# Altium footprint library EASY-EAI-Nano-TB V1.01.PcbLib: 64 footprints (part 3 of 4)
Each footprint in its own frame and in the unit in brackets; x right, y up, seen from the top. Pads: shape width x height; smd on the part's side, far side on the other; paste and mask are expansions set on the pad; w line width, h text height; cw(c..) or ccw(c..) is an arc to the next point about the centre after c.
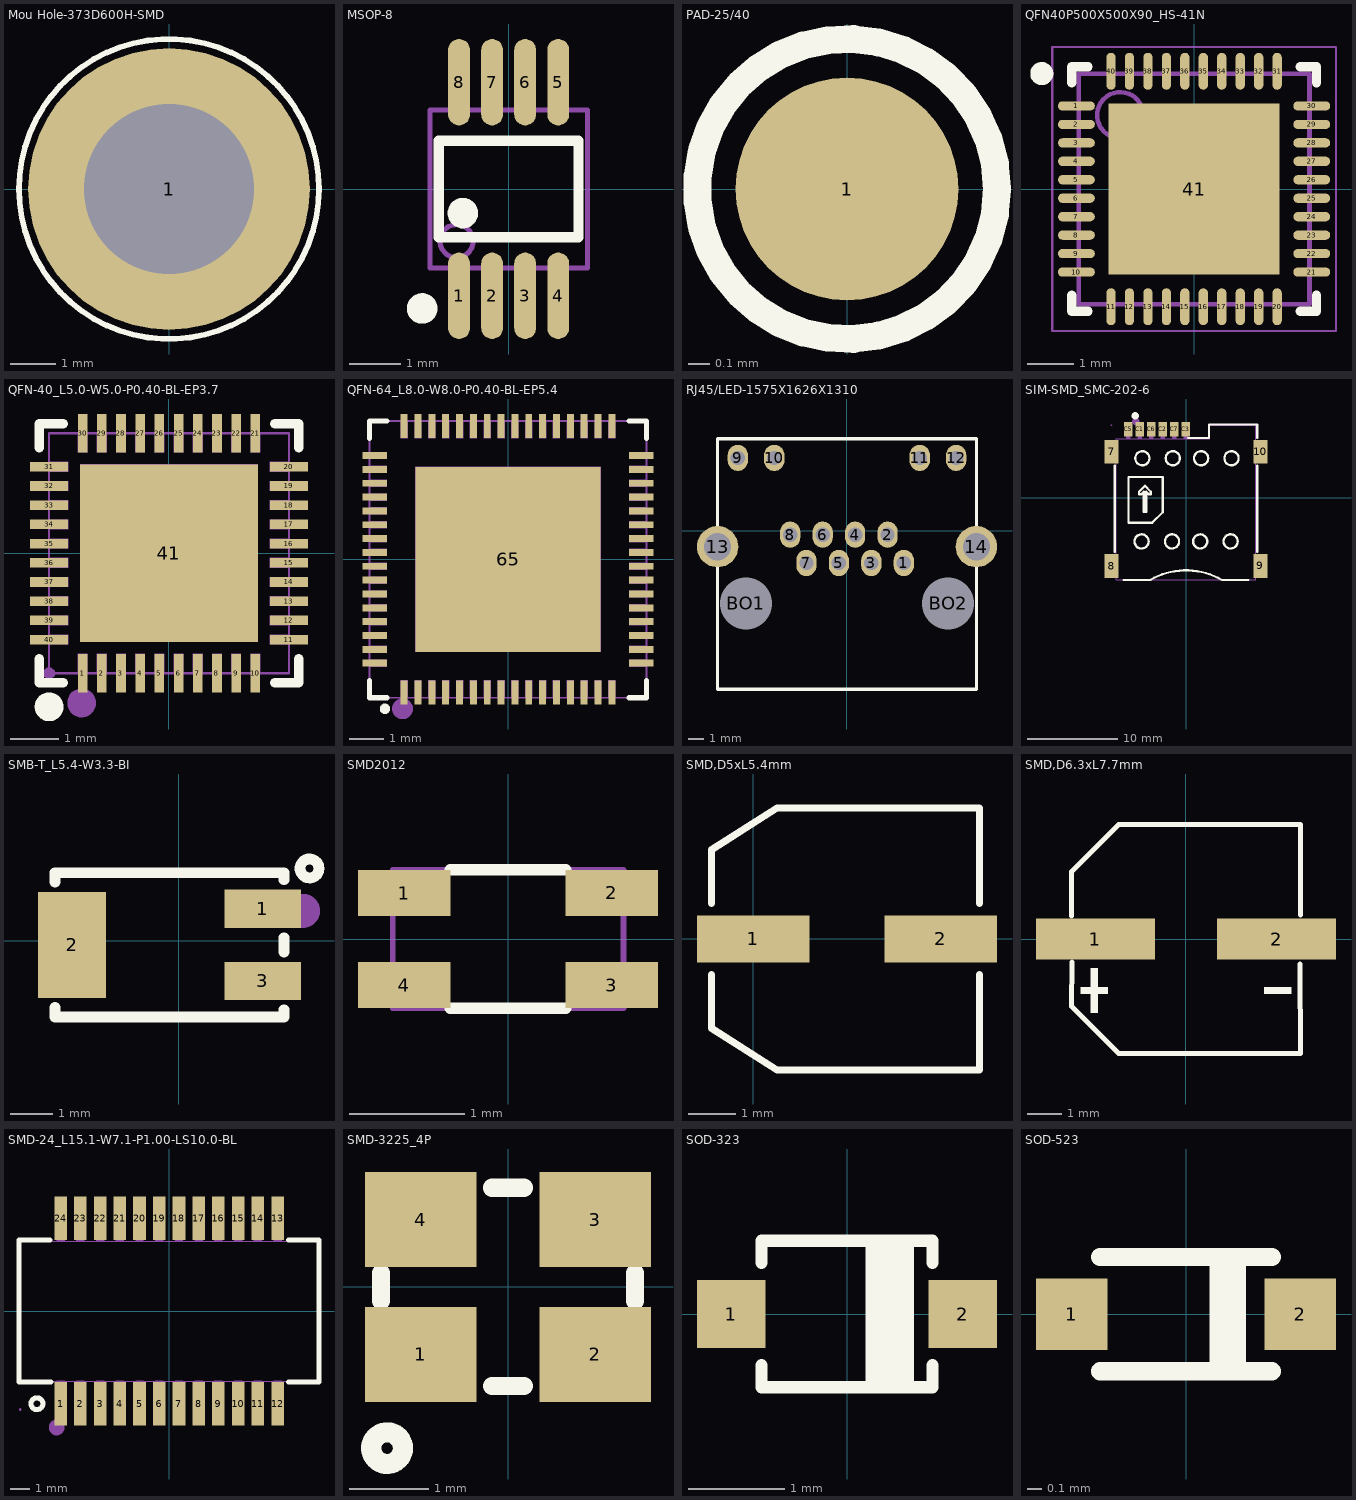
[diagram p2: the footprints below, top view; thin cyan lines are the x and y axes]

## Mou Hole-373D600H-SMD [mm] "Diameter 3.6mm SMD nut,height 6mm"
height 6
pads (1):
  round 6.2 hole 3.73: 1(0,0)
Top Overlay:
  circle w0.127: c0,0 r3.3
Top Paste:
  region: 0.4,1.828 0.717,1.731 1.041,1.558 1.325,1.325 1.558,1.041 1.731,0.717 1.828,0.4 1.822,0.398 1.822,0.4 3.073,0.4 3.078,0.401 3.071,0.486 2.957,0.961 2.771,1.412 2.516,1.828 2.199,2.199 1.828,2.516 1.412,2.771 0.961,2.957 0.486,3.071 0.401,3.078 0.4,3.074 0.4,3.073
  region: -1.828,0.4 -1.731,0.717 -1.558,1.041 -1.325,1.325 -1.041,1.558 -0.717,1.731 -0.4,1.828 -0.398,1.822 -0.4,1.822 -0.4,3.073 -0.401,3.078 -0.486,3.071 -0.961,2.957 -1.412,2.771 -1.828,2.516 -2.199,2.199 -2.516,1.828 -2.771,1.412 -2.957,0.961 -3.071,0.486 -3.078,0.401 -3.074,0.4 -3.073,0.4
  region: -0.4,-1.828 -0.717,-1.731 -1.041,-1.558 -1.325,-1.325 -1.558,-1.041 -1.731,-0.717 -1.828,-0.4 -1.822,-0.398 -1.822,-0.4 -3.073,-0.4 -3.078,-0.401 -3.071,-0.486 -2.957,-0.961 -2.771,-1.412 -2.516,-1.828 -2.199,-2.199 -1.828,-2.516 -1.412,-2.771 -0.961,-2.957 -0.486,-3.071 -0.401,-3.078 -0.4,-3.074 -0.4,-3.073
  region: 1.828,-0.4 1.731,-0.717 1.558,-1.041 1.325,-1.325 1.041,-1.558 0.717,-1.731 0.4,-1.828 0.398,-1.822 0.4,-1.822 0.4,-3.073 0.401,-3.078 0.486,-3.071 0.961,-2.957 1.412,-2.771 1.828,-2.516 2.199,-2.199 2.516,-1.828 2.771,-1.412 2.957,-0.961 3.071,-0.486 3.078,-0.401 3.074,-0.4 3.073,-0.4
3D body: height 6, standoff 0, extent -2.791,-2.669 2.769,2.884
3D body: height 0, standoff -1.53, extent -1.807,-1.819 1.793,1.782

## MSOP-8 [mm]
pads (8):
  oval 0.43x1.7 smd mask+0.051: 1(-0.975,-2.1) 2(-0.325,-2.1) 3(0.325,-2.1) 4(0.975,-2.1) 5(0.975,2.1) 6(0.325,2.1) 7(-0.325,2.1) 8(-0.975,2.1)
Top Overlay:
  circle w0.3: c-0.9,-0.475 r0.15
  circle w0.3: c-1.7,-2.35 r0.15
  lines w0.2: -1.375,-0.95 1.375,-0.95 1.375,0.95 -1.375,0.95 -1.375,-0.95
Mechanical 13:
  circle w0.1: c-1.025,-1.025 r0.325
  lines w0.1: -1.55,-1.55 1.55,-1.55 1.55,1.55 -1.55,1.55 -1.55,-1.55

## PAD-25/40 [mil]
height 106.3
pads (1):
  round 40 smd paste-43.31: 1(0,0)
Top Overlay:
  circle w5: c0,0 r26.93

## QFN40P500X500X90_HS-41N [mm] "QFN, 40-Leads, Body 5.00x5.00mm, Pitch 0.40mm, Thermal Pad 3.70x3.70mm, IPC Medium Density"
height 0.9
pads (41):
  oval 0.8x0.2 smd mask+0.051: 1(-2.55,1.8) 2(-2.55,1.4) 3(-2.55,1) 4(-2.55,0.6) 5(-2.55,0.2) 6(-2.55,-0.2) 7(-2.55,-0.6) 8(-2.55,-1) 9(-2.55,-1.4) 10(-2.55,-1.8) 21(2.55,-1.8) 22(2.55,-1.4) 23(2.55,-1) 24(2.55,-0.6) 25(2.55,-0.2) 26(2.55,0.2) 27(2.55,0.6) 28(2.55,1) 29(2.55,1.4) 30(2.55,1.8)
  oval 0.2x0.8 smd mask+0.051: 11(-1.8,-2.55) 12(-1.4,-2.55) 13(-1,-2.55) 14(-0.6,-2.55) 15(-0.2,-2.55) 16(0.2,-2.55) 17(0.6,-2.55) 18(1,-2.55) 19(1.4,-2.55) 20(1.8,-2.55) 31(1.8,2.55) 32(1.4,2.55) 33(1,2.55) 34(0.6,2.55) 35(0.2,2.55) 36(-0.2,2.55) 37(-0.6,2.55) 38(-1,2.55) 39(-1.4,2.55) 40(-1.8,2.55)
  rect 3.7x3.7 smd: 41(0,0)
Top Overlay:
  circle w0.25: c-3.3,2.5 r0.125
  lines w0.2: -2.65,-2.3 -2.65,-2.65 -2.3,-2.65 ; -2.65,2.3 -2.65,2.65 -2.3,2.65 ; 2.3,-2.65 2.65,-2.65 2.65,-2.3 ; 2.3,2.65 2.65,2.65 2.65,2.3
Mechanical 13:
  circle w0.1: c-1.6,1.6 r0.5
  lines w0.1: -2.5,-2.5 2.5,-2.5 2.5,2.5 -2.5,2.5 -2.5,-2.5
Mechanical 15:
  lines w0.05: -3.075,-3.075 3.075,-3.075 3.075,3.075 -3.075,3.075 -3.075,-3.075
  lines w0.1: -0.5,0 0.5,0 ; 0,-0.5 0,0.5
3D body "QFN40P500X500X90_HS-41N.step": height 0.9, standoff 0, extent -2.501,-2.501 2.501,2.501

## QFN-40_L5.0-W5.0-P0.40-BL-EP3.7 [mm]
pads (41):
  rect 0.2x0.8 smd paste-100 mask+0.05: 1(-1.8,-2.499) 2(-1.4,-2.499) 3(-1,-2.499) 4(-0.6,-2.499) 5(-0.2,-2.499) 6(0.2,-2.499) 7(0.6,-2.499) 8(1,-2.499) 9(1.4,-2.499) 10(1.8,-2.499) 21(1.8,2.499) 22(1.4,2.499) 23(1,2.499) 24(0.6,2.499) 25(0.2,2.499) 26(-0.2,2.499) 27(-0.6,2.499) 28(-1,2.499) 29(-1.4,2.499) 30(-1.8,2.499)
  rect 0.8x0.2 smd paste-100 mask+0.05: 11(2.499,-1.8) 12(2.499,-1.4) 13(2.499,-1) 14(2.499,-0.6) 15(2.499,-0.2) 16(2.499,0.2) 17(2.499,0.6) 18(2.499,1) 19(2.499,1.4) 20(2.499,1.8) 31(-2.499,1.8) 32(-2.499,1.4) 33(-2.499,1) 34(-2.499,0.6) 35(-2.499,0.2) 36(-2.499,-0.2) 37(-2.499,-0.6) 38(-2.499,-1) 39(-2.499,-1.4) 40(-2.499,-1.8)
  rect 3.7x3.7 smd paste-100 mask+0.05: 41(0,0)
Top Overlay:
  lines w0.2: -2.7,-2.2 -2.7,-2.7 -2.2,-2.7 ; -2.7,2.2 -2.7,2.7 -2.2,2.7 ; 2.2,-2.7 2.7,-2.7 2.7,-2.2 ; 2.2,2.7 2.7,2.7 2.7,2.2
  lines w0.3: -2.499,-3.051 ccw(c-2.498,-3.201) -2.497,-3.051
Top Paste:
  drawing of 41 lines, arcs and shapes, not listed
Mechanical 6:
  circle w0.3: c-1.82,-3.12 r0.15
Mechanical 15:
  drawing of 46 lines, arcs and shapes, not listed

## QFN-64_L8.0-W8.0-P0.40-BL-EP5.4 [mm]
height 1.016
pads (65):
  rect 0.2x0.7 smd paste-100 mask+0.05: 1(-3,-3.85) 2(-2.6,-3.85) 3(-2.2,-3.85) 4(-1.8,-3.85) 5(-1.4,-3.85) 6(-1,-3.85) 7(-0.6,-3.85) 8(-0.2,-3.85) 9(0.2,-3.85) 10(0.6,-3.85) 11(1,-3.85) 12(1.4,-3.85) 13(1.8,-3.85) 14(2.2,-3.85) 15(2.6,-3.85) 16(3,-3.85) 33(3,3.85) 34(2.6,3.85) 35(2.2,3.85) 36(1.8,3.85) 37(1.4,3.85) 38(1,3.85) 39(0.6,3.85) 40(0.2,3.85) 41(-0.2,3.85) 42(-0.6,3.85) 43(-1,3.85) 44(-1.4,3.85) 45(-1.8,3.85) 46(-2.2,3.85) 47(-2.6,3.85) 48(-3,3.85)
  rect 0.7x0.2 smd paste-100 mask+0.05: 17(3.85,-3) 18(3.85,-2.6) 19(3.85,-2.2) 20(3.85,-1.8) 21(3.85,-1.4) 22(3.85,-1) 23(3.85,-0.6) 24(3.85,-0.2) 25(3.85,0.2) 26(3.85,0.6) 27(3.85,1) 28(3.85,1.4) 29(3.85,1.8) 30(3.85,2.2) 31(3.85,2.6) 32(3.85,3) 49(-3.85,3) 50(-3.85,2.6) 51(-3.85,2.2) 52(-3.85,1.8) 53(-3.85,1.4) 54(-3.85,1) 55(-3.85,0.6) 56(-3.85,0.2) 57(-3.85,-0.2) 58(-3.85,-0.6) 59(-3.85,-1) 60(-3.85,-1.4) 61(-3.85,-1.8) 62(-3.85,-2.2) 63(-3.85,-2.6) 64(-3.85,-3)
  rect 5.35x5.35 smd paste-100 mask+0.05: 65(0,0)
Top Overlay:
  circle w0.15: c-3.556,-4.318 r0.075
  lines w0.15: -4,-3.5 -4,-4 -3.5,-4 ; -4,3.5 -4,4 -3.5,4 ; 3.5,-4 4,-4 4,-3.5 ; 3.5,4 4,4 4,3.5
Top Paste:
  drawing of 65 lines, arcs and shapes, not listed
Mechanical 6:
  circle w0.3: c-3.048,-4.318 r0.15
Mechanical 15:
  drawing of 70 lines, arcs and shapes, not listed

## RJ45/LED-1575X1626X1310 [mm]
height 0.7
pads (16):
  oval 1.27x1.651 hole 0.9: 1(3.57,-2.03) 2(2.55,-0.25) 3(1.53,-2.03) 4(0.51,-0.25) 5(-0.51,-2.03) 6(-1.53,-0.25) 7(-2.55,-2.03) 8(-3.57,-0.25) 9(-6.86,4.57) 10(-4.57,4.57) 11(4.57,4.57) 12(6.86,4.57)
  round 2.6 hole 1.7: 13(-8.125,-1.01) 14(8.125,-1.01)
  round 3.15 hole 3.25 unplated: BO1(-6.35,-4.57) BO2(6.35,-4.57)
Top Overlay:
  lines w0.203: -8.13,-9.97 -8.13,5.78 8.13,5.78 8.13,-9.97 -8.13,-9.97
Bottom Overlay:
  lines w0.305: -3.556,-2.921 -3.556,-1.524 -2.54,-0.762 ; -2.54,0.635 -2.54,-0.762 ; -1.524,-2.921 -1.524,-1.524 ; -0.508,0.635 -0.508,-0.762 ; 0.508,-2.921 0.508,-1.524 ; 1.524,0.635 1.524,-0.762 ; 2.54,-2.921 2.54,-1.524 ; 3.556,0.635 3.556,-0.762 2.54,-1.524 ; -2.54,-0.762 -1.524,-1.524 ; -1.524,-1.524 -0.508,-0.762 ; -0.508,-0.762 0.508,-1.524 ; 0.508,-1.524 1.524,-0.762 ; 1.524,-0.762 2.54,-1.524

## SIM-SMD_SMC-202-6 [mm]
pads (10):
  rect 1.56x2.61 smd: 7(-8.225,5.075) 8(-8.225,-7.543) 9(8.225,-7.537) 10(8.225,5.086)
  rect 0.9x1.6 smd: C1(-5.105,7.543) C2(-2.565,7.543) C3(-0.025,7.543) C5(-6.375,7.543) C6(-3.835,7.543) C7(-1.295,7.543)
Top Overlay:
  circle w0.254: c-4.816,4.352 r0.78
  circle w0.254: c-1.458,4.355 r0.78
  circle w0.254: c1.661,4.352 r0.78
  circle w0.254: c5.018,4.356 r0.78
  circle w0.254: c-4.909,-4.83 r0.78
  circle w0.254: c-1.552,-4.827 r0.78
  circle w0.254: c1.568,-4.83 r0.78
  circle w0.254: c4.925,-4.826 r0.78
  circle w0.4: c-5.61,9.04 r0.2
  lines w0.254: -7.858,-6.007 -7.858,3.539 ; -6.878,-9.08 -3.958,-9.08 cw(c0.007,-15.951) 3.972,-9.08 6.878,-9.08 ; 0.25,6.58 2.55,6.58 2.55,8.07 7.872,8.07 7.872,6.622 ; 7.872,-6 7.872,3.55 7.872,3.193 ; -6.34,-2.776 -3.74,-2.776 -2.57,-1.606 -2.57,2.294 -6.34,2.294 -6.34,-2.776 ; -5.183,0.395 -5.183,0.656 -4.533,1.306 -3.882,0.656 -3.882,0.395 -4.142,0.395 -4.401,0.656 -4.401,-1.554 -4.662,-1.554 -4.662,0.656 -4.921,0.395 -5.183,0.395
Mechanical 6:
  circle w0.4: c-5.54,8.43 r0.2
Mechanical 15:
  region: -1.52,7.78 -1.07,7.78 -1.07,6.98 -1.52,6.98
  region: -6.6,7.78 -6.15,7.78 -6.15,6.98 -6.6,6.98
  region: -4.06,7.78 -3.61,7.78 -3.61,6.98 -4.06,6.98
  region: -0.25,7.78 0.2,7.78 0.2,6.98 -0.25,6.98
  region: -2.79,7.78 -2.34,7.78 -2.34,6.98 -2.79,6.98
  region: -5.33,7.78 -4.88,7.78 -4.88,6.98 -5.33,6.98
  region: -0.25,6.47 -0.25,7.07 0.2,7.07 0.2,6.47
  region: -1.52,6.47 -1.52,7.07 -1.07,7.07 -1.07,6.47
  region: -2.79,6.47 -2.79,7.07 -2.34,7.07 -2.34,6.47
  region: -4.06,6.47 -4.06,7.07 -3.61,7.07 -3.61,6.47
  region: -5.33,6.47 -5.33,7.07 -4.88,7.07 -4.88,6.47
  region: -6.6,6.47 -6.6,7.07 -6.15,7.07 -6.15,6.47
  region: 7.53,4.086 7.53,6.086 8.23,6.086 8.23,4.086
  region: 7.53,-8.537 7.53,-6.537 8.23,-6.537 8.23,-8.537
  region: -8.23,-8.543 -8.23,-6.543 -7.53,-6.543 -7.53,-8.543
  region: -8.23,4.075 -8.23,6.075 -7.53,6.075 -7.53,4.075
  region: -8.17,8.02 -8.171,8.044 -8.205,8.078 -8.254,8.078 -8.289,8.044 -8.29,8.02 -8.289,7.996 -8.254,7.962 -8.206,7.962 -8.171,7.996
  lines w0.051: -7.7,-9.07 -7.7,6.52 -7.69,6.53 2.6,6.53 2.6,8.02 7.7,8.02 7.7,-9.07 -7.69,-9.08 -7.7,-9.07

## SMB-T_L5.4-W3.3-BI [mm]
height 0.635
pads (3):
  rect 1.8x0.9 smd: 1(1.988,0.752) 3(1.988,-0.948)
  rect 1.6x2.5 smd: 2(-2.512,-0.098)
Top Overlay:
  circle w0.254: c3.088,1.702 r0.224
  lines w0.254: -2.912,-1.579 -2.912,-1.798 2.488,-1.798 2.488,-1.629 ; -2.912,1.383 -2.912,1.602 2.488,1.602 2.488,1.433 ; 2.488,-0.267 2.488,0.071
Mechanical 15:
  circle w0.4: c2.938,0.702 r0.2

## SMD2012 [mm]
pads (4):
  rect 0.8x0.4 smd: 1(-0.901,0.399) 2(0.901,0.4) 3(0.9,-0.4) 4(-0.899,-0.4)
Top Overlay:
  lines w0.1: -0.501,-0.601 0.499,-0.601 ; -0.501,0.599 0.499,0.599
Mechanical 15:
  region: 0.6,-0.553 0.6,-0.253 1,-0.253 1,-0.553
  region: 0.6,0.249 0.6,0.549 1,0.549 1,0.249
  region: -0.6,-0.251 -0.6,-0.551 -1,-0.551 -1,-0.251
  region: -0.6,0.55 -0.6,0.25 -1,0.25 -1,0.55
  region: -0.98,0.6 -0.98,0.608 -0.992,0.62 -1.008,0.62 -1.02,0.608 -1.02,0.6 -1.02,0.591 -1.008,0.58 -0.991,0.58 -0.98,0.591
  lines w0.051: -1,-0.6 -1,0.6 1,0.6 1,-0.6 -1,-0.6

## SMD,D5xL5.4mm [mm] "SMD,5x5.4mm"
height 0.2
pads (2):
  rect 2.4x1 smd: 1(0,0) 2(4,0)
Top Overlay:
  lines w0.15: -0.889,-1.905 -0.889,-0.762 ; -0.889,0.762 -0.889,1.905 ; 0.508,-2.794 4.826,-2.794 4.826,-0.762 ; 0.508,2.794 4.826,2.794 4.826,0.762
  lines w0.152: -0.889,-1.905 0.508,-2.794 ; -0.889,1.905 0.508,2.794

## SMD,D6.3xL7.7mm [mm]
height 0.2
pads (2):
  rect 3.5x1.2 smd mask+0.051: 1(-2.67,0) 2(2.67,0)
Top Overlay:
  region: 3.102,-1.419 3.102,-1.617 2.31,-1.617 2.31,-1.419
  region: -3.102,-1.419 -3.102,-1.617 -2.31,-1.617 -2.31,-1.419
  region: -2.805,-0.858 -2.805,-2.178 -2.607,-2.178 -2.607,-0.858
  lines w0.152: -3.376,0.686 -3.376,1.98 -1.98,3.376 3.376,3.376 3.369,0.708 ; -3.362,-0.686 -3.376,-1.981 -1.981,-3.376 3.376,-3.376 3.356,-0.739

## SMD-24_L15.1-W7.1-P1.00-LS10.0-BL [mm]
height 0.2
pads (24):
  rect 0.64x2.2 smd: 1(-5.5,-4.7) 2(-4.5,-4.7) 3(-3.5,-4.7) 4(-2.5,-4.7) 5(-1.5,-4.7) 6(-0.5,-4.7) 7(0.5,-4.7) 8(1.5,-4.7) 9(2.5,-4.7) 10(3.5,-4.7) 11(4.5,-4.7) 12(5.5,-4.7) 13(5.5,4.7) 14(4.5,4.7) 15(3.5,4.7) 16(2.5,4.7) 17(1.5,4.7) 18(0.5,4.7) 19(-0.5,4.7) 20(-1.5,4.7) 21(-2.5,4.7) 22(-3.5,4.7) 23(-4.5,4.7) 24(-5.5,4.7)
Top Overlay:
  circle w0.254: c-6.7,-4.7 r0.3
  lines w0.254: -6.051,3.6 -7.6,3.6 -7.6,-3.6 -6,-3.6 ; 6.051,-3.6 7.6,-3.6 7.6,3.6 6.051,3.6
Mechanical 6:
  circle w0.4: c-5.7,-5.9 r0.2
Mechanical 15:
  drawing of 53 lines, arcs and shapes, not listed

## SMD-3225_4P [mm]
height 0.2
pads (4):
  rect 1.4x1.2 smd mask+0.051: 1(-1.1,-0.85) 2(1.1,-0.85) 3(1.1,0.85) 4(-1.1,0.85)
Top Overlay:
  circle w0.254: c-1.524,-2.032 r0.2
  lines w0.229: -1.6,-0.178 -1.6,0.178 ; -0.203,-1.25 0.203,-1.25 ; -0.203,1.25 0.203,1.25 ; 1.6,-0.178 1.6,0.178
3D body "DFN210P320X80-4N.step": height 0.8, standoff 0, extent -1.6,-1.25 1.7,1.25

## SOD-323 [mil]
pads (2):
  rect 28x28 smd: 1(-47.5,0) 2(47.5,0)
Top Overlay:
  lines w5: -35,-21 -35,-30 35,-30 35,-21 ; -35,21 -35,30 35,30 35,21 ; 10,-30 10,30 ; 15,-30 15,30 ; 20,-30 20,30 ; 25,-30 25,30
3D body "SOD-323.STEP": height 39.37, standoff 0, extent -51,-26 51.36,25.18

## SOD-523 [mm]
height 0.635
pads (2):
  rect 0.5x0.5 smd mask+0.1: 1(-0.8,0) 2(0.8,0)
Top Overlay:
  rectangle: 0.164,-0.399 0.42,0.401
  lines w0.127: -0.6,-0.4 0.6,-0.4 ; -0.6,0.4 0.6,0.4